# EAGLE library part MC33202PG (library On Semiconductor)
Operational Amplifiers
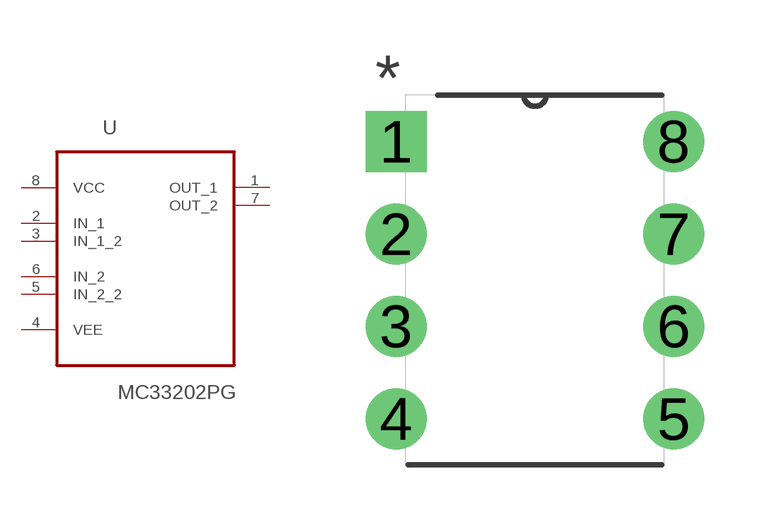
[diagram p367: symbol with the pads of DIP254P762X533-8; footprint DIP254P762X533-8]

Designator prefix U

## MC33202PG (MPN: MC33202PG; OC_FARNELL: 9666680; OC_NEWARK: 71J5524; PACKAGE: PDIP; SUPPLIER: ON SEMICONDUCTOR)  [DIP254P762X533-8]
1  OUT_1  out
2  IN_1  in
3  IN_1_2  in
4  VEE  pas
5  IN_2_2  in
6  IN_2  in
7  OUT_2  out
8  VCC  pwr

## Footprint DIP254P762X533-8 (pad centres in mm)
drill 1.118 square: 1 -7.62,7.62
drill 1.118: 2 -7.62,5.08; 3 -7.62,2.54; 4 -7.62,0; 5 0,0; 6 0,2.54; 7 0,5.08; 8 0,7.62